# EAGLE library part XR-T7295P (library exar)
DS3/Sonet STS-1 LINE RECEIVER
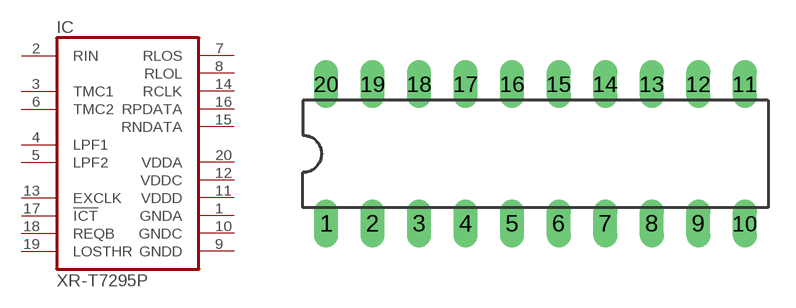
[diagram p21: symbol with the pads of DIL20; footprint DIL20]

Designator prefix IC

## XR-T7295P  [DIL20]
1  GNDA  pwr
2  RIN  in
3  TMC1  in
4  LPF1  in
5  LPF2  in
6  TMC2  in
7  RLOS  out
8  RLOL  out
9  GNDD  pwr
10  GNDC  pwr
11  VDDD  pwr
12  VDDC  pwr
13  EXCLK  in
14  RCLK  out
15  RNDATA  out
16  RPDATA  out
17  !ICT  in
18  REQB  in
19  LOSTHR  in
20  VDDA  pwr

## Footprint DIL20 (pad centres in mm)
Dual In Line Package
drill 0.813 long: 1 -11.43,-3.81; 2 -8.89,-3.81; 3 -6.35,-3.81; 4 -3.81,-3.81; 5 -1.27,-3.81; 6 1.27,-3.81; 7 3.81,-3.81; 8 6.35,-3.81; 9 8.89,-3.81; 10 11.43,-3.81; 11 11.43,3.81; 12 8.89,3.81; 13 6.35,3.81; 14 3.81,3.81; 15 1.27,3.81; 16 -1.27,3.81; 17 -3.81,3.81; 18 -6.35,3.81; 19 -8.89,3.81; 20 -11.43,3.81